# EAGLE library part I-02791_LT1785CN8 (library Akizuki)
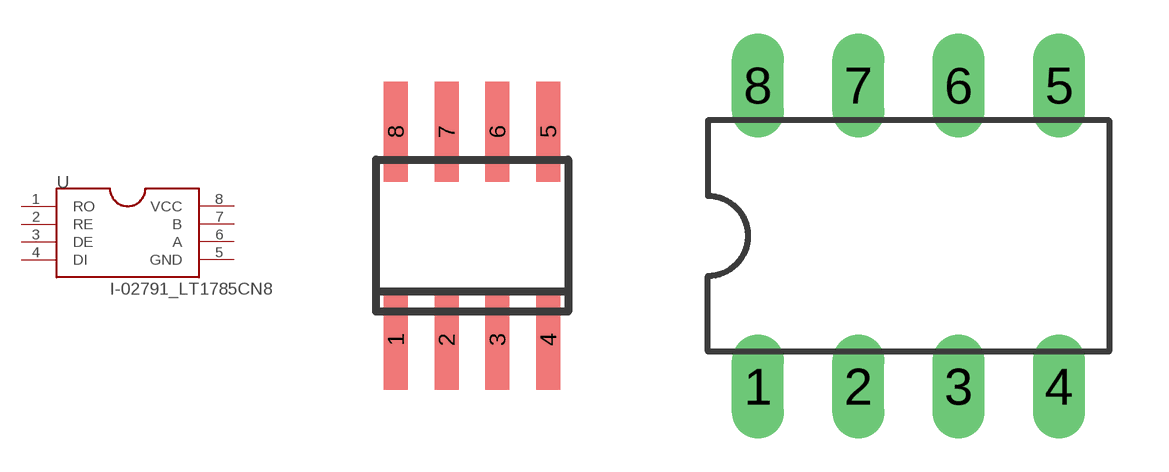
[diagram p2: symbol with the pads of SO8; footprints SO8, DIL08]

Designator prefix U

## I-02791_LT1785CN8SO8  [SO8]
1  RO
2  RE
3  DE
4  DI
5  GND
6  A
7  B
8  VCC

## I-02791_LT1785CN8DIP8  [DIL08]
Pads as for SO8

## Footprint SO8 (pad centres in mm)
8-Lead Small Outline IC (SO-8) Source: http://www.analog.com/UploadedFiles/Data_Sheets/703465986AD8611_2_0.pdf
smd 0.6 x 2.5: 1 -0.635,-1.33; 2 0.635,-1.33; 3 1.905,-1.33; 4 3.175,-1.33; 5 3.175,3.87; 6 1.905,3.87; 7 0.635,3.87; 8 -0.635,3.87

## Footprint DIL08 (pad centres in mm)
Dual In Line Package
drill 0.813 long: 1 -3.81,-3.81; 2 -1.27,-3.81; 3 1.27,-3.81; 4 3.81,-3.81; 5 3.81,3.81; 6 1.27,3.81; 7 -1.27,3.81; 8 -3.81,3.81